# Altium integrated library Capacitor - Ceramic - Sumsung.IntLib: 1421 symbols (part 2 of 22)
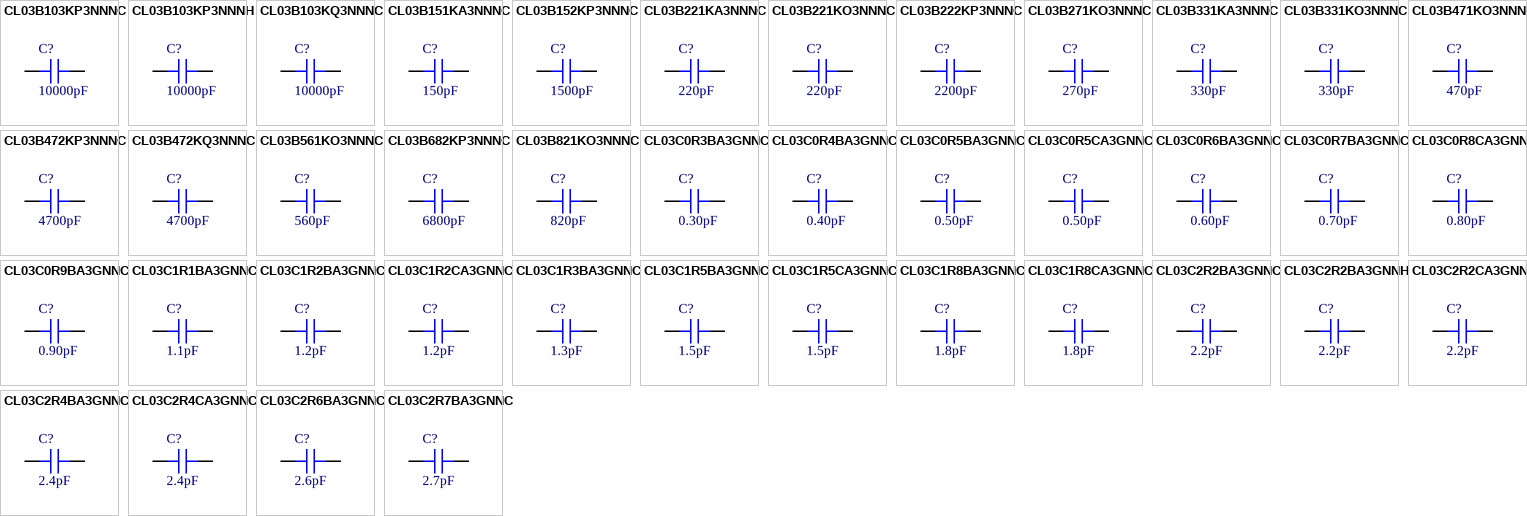
[diagram p36: symbols CL03B103KP3NNNC to CL03C2R7BA3GNNC]

## CL03C0R8CA3GNNC
designator C?, comment 0.80pF
CAP CER 0.8PF 25V NP0 0201; Part Number: CL03C0R8CA3GNNC; Manufacturer: Samsung Electro-Mechanics America, Inc.; TemperatureRange: -55C ~ 125C; TemperatureCoefficient: C0G, NP0; Tolerance: 0.25pF; Value: 0.80pF; PartId: 21066; Supplier 1: Digi-Key; Supplier Part Number 1: 1276-1381-2-ND; ComponentLink1Description: Datasheet; ComponentLink1URL: http://www.samsungsem.com/kr/support/product-search/mlcc/__icsFiles/afieldfile/2016/08/18/S_CL03C0R8CA3GNNC.pdf; ComponentLink2Description: Digi-Key Listing; ComponentLink2URL: https://www.digikey.com/product-detail/en/samsung-electro-mechanics-america-inc/CL03C0R8CA3GNNC/1276-1381-2-ND/3887039; Voltage: 25V; Price: 0.0033; Device Package: 0201 (0603 Metric)
footprint CAP 0201/0603
pins: 1, 2

## CL03C0R9BA3GNNC
designator C?, comment 0.90pF
CAP CER 0.9PF 25V NP0 0201; Part Number: CL03C0R9BA3GNNC; Manufacturer: Samsung Electro-Mechanics America, Inc.; TemperatureRange: -55C ~ 125C; TemperatureCoefficient: C0G, NP0; Tolerance: 0.1pF; Value: 0.90pF; PartId: 21050; Supplier 1: Digi-Key; Supplier Part Number 1: 1276-1382-2-ND; ComponentLink1Description: Datasheet; ComponentLink1URL: http://www.samsungsem.com/kr/support/product-search/mlcc/__icsFiles/afieldfile/2016/08/18/S_CL03C0R9BA3GNNC.pdf; ComponentLink2Description: Digi-Key Listing; ComponentLink2URL: https://www.digikey.com/product-detail/en/samsung-electro-mechanics-america-inc/CL03C0R9BA3GNNC/1276-1382-2-ND/3887040; Voltage: 25V; Price: 0.0063; Device Package: 0201 (0603 Metric)
footprint CAP 0201/0603
pins: 1, 2

## CL03C1R1BA3GNNC
designator C?, comment 1.1pF
CAP CER 1.1PF 25V C0G/NP0 0201; Part Number: CL03C1R1BA3GNNC; Manufacturer: Samsung Electro-Mechanics; TemperatureRange: -55C ~ 125C; TemperatureCoefficient: C0G, NP0; Tolerance: 0.1pF; Value: 1.1pF; PartId: 30087; Supplier 1: Digi-Key; Supplier Part Number 1: 1276-6502-2-ND; ComponentLink1Description: Datasheet; ComponentLink1URL: http://www.samsungsem.com/kr/support/product-search/mlcc/CL03C1R1BA3GNNC.jsp; ComponentLink2Description: Digi-Key Listing; ComponentLink2URL: https://www.digikey.com/product-detail/en/samsung-electro-mechanics/CL03C1R1BA3GNNC/1276-6502-2-ND/5960986; Voltage: 25V; Price: 0; Device Package: 0201 (0603 Metric)
footprint CAP 0201/0603
pins: 1, 2

## CL03C1R2BA3GNNC
designator C?, comment 1.2pF
CAP CER 1.2PF 25V NP0 0201; Part Number: CL03C1R2BA3GNNC; Manufacturer: Samsung Electro-Mechanics America, Inc.; TemperatureRange: -55C ~ 125C; TemperatureCoefficient: C0G, NP0; Tolerance: 0.1pF; Value: 1.2pF; PartId: 21060; Supplier 1: Digi-Key; Supplier Part Number 1: 1276-1392-2-ND; ComponentLink1Description: Datasheet; ComponentLink1URL: http://www.samsungsem.com/kr/support/product-search/mlcc/__icsFiles/afieldfile/2016/08/18/S_CL03C1R2BA3GNNC.pdf; ComponentLink2Description: Digi-Key Listing; ComponentLink2URL: https://www.digikey.com/product-detail/en/samsung-electro-mechanics-america-inc/CL03C1R2BA3GNNC/1276-1392-2-ND/3887050; Voltage: 25V; Price: 0.0063; Device Package: 0201 (0603 Metric)
footprint CAP 0201/0603
pins: 1, 2

## CL03C1R2CA3GNNC
designator C?, comment 1.2pF
CAP CER 1.2PF 25V NP0 0201; Part Number: CL03C1R2CA3GNNC; Manufacturer: Samsung Electro-Mechanics America, Inc.; TemperatureRange: -55C ~ 125C; TemperatureCoefficient: C0G, NP0; Tolerance: 0.25pF; Value: 1.2pF; PartId: 20733; Supplier 1: Digi-Key; Supplier Part Number 1: 1276-1393-2-ND; ComponentLink1Description: Datasheet; ComponentLink1URL: http://www.samsungsem.com/kr/support/product-search/mlcc/__icsFiles/afieldfile/2016/08/18/S_CL03C1R2CA3GNNC.pdf; ComponentLink2Description: Digi-Key Listing; ComponentLink2URL: https://www.digikey.com/product-detail/en/samsung-electro-mechanics-america-inc/CL03C1R2CA3GNNC/1276-1393-2-ND/3887051; Voltage: 25V; Price: 0.0039; Device Package: 0201 (0603 Metric)
footprint CAP 0201/0603
pins: 1, 2

## CL03C1R3BA3GNNC
designator C?, comment 1.3pF
CAP CER 1.3PF 25V NP0 0201; Part Number: CL03C1R3BA3GNNC; Manufacturer: Samsung Electro-Mechanics America, Inc.; TemperatureRange: -55C ~ 125C; TemperatureCoefficient: C0G, NP0; Tolerance: 0.1pF; Value: 1.3pF; PartId: 21073; Supplier 1: Digi-Key; Supplier Part Number 1: 1276-1394-2-ND; ComponentLink1Description: Datasheet; ComponentLink1URL: http://www.samsungsem.com/kr/support/product-search/mlcc/__icsFiles/afieldfile/2016/08/18/S_CL03C1R3BA3GNNC.pdf; ComponentLink2Description: Digi-Key Listing; ComponentLink2URL: https://www.digikey.com/product-detail/en/samsung-electro-mechanics-america-inc/CL03C1R3BA3GNNC/1276-1394-2-ND/3887052; Voltage: 25V; Price: 0.0063; Device Package: 0201 (0603 Metric)
footprint CAP 0201/0603
pins: 1, 2

## CL03C1R5BA3GNNC
designator C?, comment 1.5pF
CAP CER 1.5PF 25V NP0 0201; Part Number: CL03C1R5BA3GNNC; Manufacturer: Samsung Electro-Mechanics America, Inc.; TemperatureRange: -55C ~ 125C; TemperatureCoefficient: C0G, NP0; Tolerance: 0.1pF; Value: 1.5pF; PartId: 20789; Supplier 1: Digi-Key; Supplier Part Number 1: 1276-1395-2-ND; ComponentLink1Description: Datasheet; ComponentLink1URL: http://www.samsungsem.com/kr/support/product-search/mlcc/__icsFiles/afieldfile/2016/08/18/S_CL03C1R5BA3GNNC.pdf; ComponentLink2Description: Digi-Key Listing; ComponentLink2URL: https://www.digikey.com/product-detail/en/samsung-electro-mechanics-america-inc/CL03C1R5BA3GNNC/1276-1395-2-ND/3887053; Voltage: 25V; Price: 0.0063; Device Package: 0201 (0603 Metric)
footprint CAP 0201/0603
pins: 1, 2

## CL03C1R5CA3GNNC
designator C?, comment 1.5pF
CAP CER 1.5PF 25V NP0 0201; Part Number: CL03C1R5CA3GNNC; Manufacturer: Samsung Electro-Mechanics America, Inc.; TemperatureRange: -55C ~ 125C; TemperatureCoefficient: C0G, NP0; Tolerance: 0.25pF; Value: 1.5pF; PartId: 21086; Supplier 1: Digi-Key; Supplier Part Number 1: 1276-1396-2-ND; ComponentLink1Description: Datasheet; ComponentLink1URL: http://www.samsungsem.com/kr/support/product-search/mlcc/__icsFiles/afieldfile/2016/08/18/S_CL03C1R5CA3GNNC.pdf; ComponentLink2Description: Digi-Key Listing; ComponentLink2URL: https://www.digikey.com/product-detail/en/samsung-electro-mechanics-america-inc/CL03C1R5CA3GNNC/1276-1396-2-ND/3887054; Voltage: 25V; Price: 0.0039; Device Package: 0201 (0603 Metric)
footprint CAP 0201/0603
pins: 1, 2

## CL03C1R8BA3GNNC
designator C?, comment 1.8pF
CAP CER 1.8PF 25V NP0 0201; Part Number: CL03C1R8BA3GNNC; Manufacturer: Samsung Electro-Mechanics America, Inc.; TemperatureRange: -55C ~ 125C; TemperatureCoefficient: C0G, NP0; Tolerance: 0.1pF; Value: 1.8pF; PartId: 21044; Supplier 1: Digi-Key; Supplier Part Number 1: 1276-1399-2-ND; ComponentLink1Description: Datasheet; ComponentLink1URL: http://www.samsungsem.com/kr/support/product-search/mlcc/__icsFiles/afieldfile/2016/08/18/S_CL03C1R8BA3GNNC.pdf; ComponentLink2Description: Digi-Key Listing; ComponentLink2URL: https://www.digikey.com/product-detail/en/samsung-electro-mechanics-america-inc/CL03C1R8BA3GNNC/1276-1399-2-ND/3887057; Voltage: 25V; Price: 0.0063; Device Package: 0201 (0603 Metric)
footprint CAP 0201/0603
pins: 1, 2

## CL03C1R8CA3GNNC
designator C?, comment 1.8pF
CAP CER 1.8PF 25V NP0 0201; Part Number: CL03C1R8CA3GNNC; Manufacturer: Samsung Electro-Mechanics America, Inc.; TemperatureRange: -55C ~ 125C; TemperatureCoefficient: C0G, NP0; Tolerance: 0.25pF; Value: 1.8pF; PartId: 21051; Supplier 1: Digi-Key; Supplier Part Number 1: 1276-1400-2-ND; ComponentLink1Description: Datasheet; ComponentLink1URL: http://www.samsungsem.com/kr/support/product-search/mlcc/__icsFiles/afieldfile/2016/08/18/S_CL03C1R8CA3GNNC.pdf; ComponentLink2Description: Digi-Key Listing; ComponentLink2URL: https://www.digikey.com/product-detail/en/samsung-electro-mechanics-america-inc/CL03C1R8CA3GNNC/1276-1400-2-ND/3887058; Voltage: 25V; Price: 0.0039; Device Package: 0201 (0603 Metric)
footprint CAP 0201/0603
pins: 1, 2

## CL03C2R2BA3GNNC
designator C?, comment 2.2pF
CAP CER 2.2PF 25V NP0 0201; Part Number: CL03C2R2BA3GNNC; Manufacturer: Samsung Electro-Mechanics America, Inc.; TemperatureRange: -55C ~ 125C; TemperatureCoefficient: C0G, NP0; Tolerance: 0.1pF; Value: 2.2pF; PartId: 21083; Supplier 1: Digi-Key; Supplier Part Number 1: 1276-1403-2-ND; ComponentLink1Description: Datasheet; ComponentLink1URL: http://www.samsungsem.com/kr/support/product-search/mlcc/__icsFiles/afieldfile/2016/08/18/S_CL03C2R2BA3GNNC.pdf; ComponentLink2Description: Digi-Key Listing; ComponentLink2URL: https://www.digikey.com/product-detail/en/samsung-electro-mechanics-america-inc/CL03C2R2BA3GNNC/1276-1403-2-ND/3887061; Voltage: 25V; Price: 0.0063; Device Package: 0201 (0603 Metric)
footprint CAP 0201/0603
pins: 1, 2

## CL03C2R2BA3GNNH
designator C?, comment 2.2pF
CAP CER 2.2PF 25V NP0 0201; Part Number: CL03C2R2BA3GNNH; Manufacturer: Samsung Electro-Mechanics America, Inc.; TemperatureRange: -55C ~ 125C; TemperatureCoefficient: C0G, NP0; Tolerance: 0.1pF; Value: 2.2pF; PartId: 20988; Supplier 1: Digi-Key; Supplier Part Number 1: 1276-6449-2-ND; ComponentLink1Description: Datasheet; ComponentLink1URL: http://www.samsungsem.com/kr/support/product-search/mlcc/__icsFiles/afieldfile/2016/08/18/S_CL03C2R2BA3GNNH.pdf; ComponentLink2Description: Digi-Key Listing; ComponentLink2URL: https://www.digikey.com/product-detail/en/samsung-electro-mechanics-america-inc/CL03C2R2BA3GNNH/1276-6449-2-ND/3894150; Voltage: 25V; Price: 0.0034; Device Package: 0201 (0603 Metric)
footprint CAP 0201/0603
pins: 1, 2

## CL03C2R2CA3GNNC
designator C?, comment 2.2pF
CAP CER 2.2PF 25V NP0 0201; Part Number: CL03C2R2CA3GNNC; Manufacturer: Samsung Electro-Mechanics America, Inc.; TemperatureRange: -55C ~ 125C; TemperatureCoefficient: C0G, NP0; Tolerance: 0.25pF; Value: 2.2pF; PartId: 20734; Supplier 1: Digi-Key; Supplier Part Number 1: 1276-1404-2-ND; ComponentLink1Description: Datasheet; ComponentLink1URL: http://www.samsungsem.com/kr/support/product-search/mlcc/__icsFiles/afieldfile/2016/08/18/S_CL03C2R2CA3GNNC.pdf; ComponentLink2Description: Digi-Key Listing; ComponentLink2URL: https://www.digikey.com/product-detail/en/samsung-electro-mechanics-america-inc/CL03C2R2CA3GNNC/1276-1404-2-ND/3887062; Voltage: 25V; Price: 0.0039; Device Package: 0201 (0603 Metric)
footprint CAP 0201/0603
pins: 1, 2

## CL03C2R4BA3GNNC
designator C?, comment 2.4pF
CAP CER 2.4PF 25V NP0 0201; Part Number: CL03C2R4BA3GNNC; Manufacturer: Samsung Electro-Mechanics America, Inc.; TemperatureRange: -55C ~ 125C; TemperatureCoefficient: C0G, NP0; Tolerance: 0.1pF; Value: 2.4pF; PartId: 21077; Supplier 1: Digi-Key; Supplier Part Number 1: 1276-1405-2-ND; ComponentLink1Description: Datasheet; ComponentLink1URL: http://www.samsungsem.com/kr/support/product-search/mlcc/__icsFiles/afieldfile/2016/08/18/S_CL03C2R4BA3GNNC.pdf; ComponentLink2Description: Digi-Key Listing; ComponentLink2URL: https://www.digikey.com/product-detail/en/samsung-electro-mechanics-america-inc/CL03C2R4BA3GNNC/1276-1405-2-ND/3887063; Voltage: 25V; Price: 0.0063; Device Package: 0201 (0603 Metric)
footprint CAP 0201/0603
pins: 1, 2

## CL03C2R4CA3GNNC
designator C?, comment 2.4pF
CAP CER 2.4PF 25V NP0 0201; Part Number: CL03C2R4CA3GNNC; Manufacturer: Samsung Electro-Mechanics America, Inc.; TemperatureRange: -55C ~ 125C; TemperatureCoefficient: C0G, NP0; Tolerance: 0.25pF; Value: 2.4pF; PartId: 21055; Supplier 1: Digi-Key; Supplier Part Number 1: 1276-1406-2-ND; ComponentLink1Description: Datasheet; ComponentLink1URL: http://www.samsungsem.com/kr/support/product-search/mlcc/__icsFiles/afieldfile/2016/08/18/S_CL03C2R4CA3GNNC.pdf; ComponentLink2Description: Digi-Key Listing; ComponentLink2URL: https://www.digikey.com/product-detail/en/samsung-electro-mechanics-america-inc/CL03C2R4CA3GNNC/1276-1406-2-ND/3887064; Voltage: 25V; Price: 0.0033; Device Package: 0201 (0603 Metric)
footprint CAP 0201/0603
pins: 1, 2

## CL03C2R6BA3GNNC
designator C?, comment 2.6pF
CAP CER 2.6PF 25V NP0 0201; Part Number: CL03C2R6BA3GNNC; Manufacturer: Samsung Electro-Mechanics America, Inc.; TemperatureRange: -55C ~ 125C; TemperatureCoefficient: C0G, NP0; Tolerance: 0.1pF; Value: 2.6pF; PartId: 21080; Supplier 1: Digi-Key; Supplier Part Number 1: 1276-6623-2-ND; ComponentLink1Description: Datasheet; ComponentLink1URL: http://www.samsungsem.com/kr/support/product-search/mlcc/__icsFiles/afieldfile/2016/08/18/S_CL03C2R6BA3GNNC.pdf; ComponentLink2Description: Digi-Key Listing; ComponentLink2URL: https://www.digikey.com/product-detail/en/samsung-electro-mechanics-america-inc/CL03C2R6BA3GNNC/1276-6623-2-ND/5961107; Voltage: 25V; Price: 0.0039; Device Package: 0201 (0603 Metric)
footprint CAP 0201/0603
pins: 1, 2

## CL03C2R7BA3GNNC
designator C?, comment 2.7pF
CAP CER 2.7PF 25V NP0 0201; Part Number: CL03C2R7BA3GNNC; Manufacturer: Samsung Electro-Mechanics America, Inc.; TemperatureRange: -55C ~ 125C; TemperatureCoefficient: C0G, NP0; Tolerance: 0.1pF; Value: 2.7pF; PartId: 21028; Supplier 1: Digi-Key; Supplier Part Number 1: 1276-1407-2-ND; ComponentLink1Description: Datasheet; ComponentLink1URL: http://www.samsungsem.com/kr/support/product-search/mlcc/__icsFiles/afieldfile/2016/08/18/S_CL03C2R7BA3GNNC.pdf; ComponentLink2Description: Digi-Key Listing; ComponentLink2URL: https://www.digikey.com/product-detail/en/samsung-electro-mechanics-america-inc/CL03C2R7BA3GNNC/1276-1407-2-ND/3887065; Voltage: 25V; Price: 0.0063; Device Package: 0201 (0603 Metric)
footprint CAP 0201/0603
pins: 1, 2

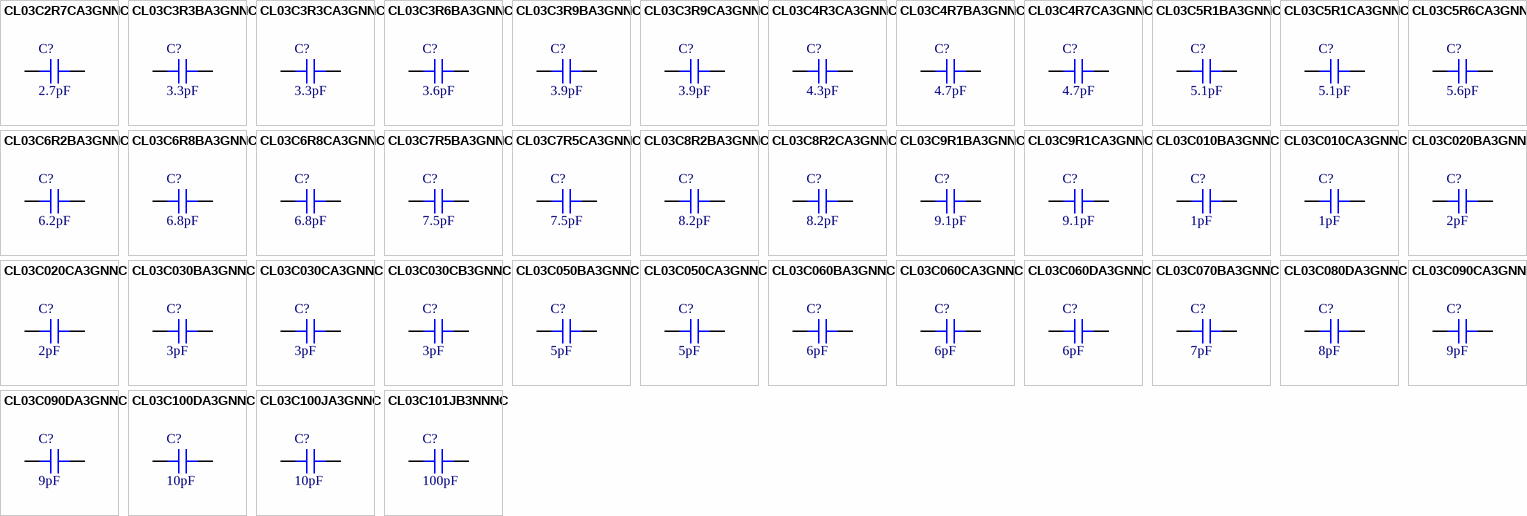
[diagram p2: symbols CL03C2R7CA3GNNC to CL03C101JB3NNNC]

## CL03C2R7CA3GNNC
designator C?, comment 2.7pF
CAP CER 2.7PF 25V NP0 0201; Part Number: CL03C2R7CA3GNNC; Manufacturer: Samsung Electro-Mechanics America, Inc.; TemperatureRange: -55C ~ 125C; TemperatureCoefficient: C0G, NP0; Tolerance: 0.25pF; Value: 2.7pF; PartId: 20730; Supplier 1: Digi-Key; Supplier Part Number 1: 1276-1408-2-ND; ComponentLink1Description: Datasheet; ComponentLink1URL: http://www.samsungsem.com/kr/support/product-search/mlcc/__icsFiles/afieldfile/2016/08/18/S_CL03C2R7CA3GNNC.pdf; ComponentLink2Description: Digi-Key Listing; ComponentLink2URL: https://www.digikey.com/product-detail/en/samsung-electro-mechanics-america-inc/CL03C2R7CA3GNNC/1276-1408-2-ND/3887066; Voltage: 25V; Price: 0.0039; Device Package: 0201 (0603 Metric)
footprint CAP 0201/0603
pins: 1, 2

## CL03C3R3BA3GNNC
designator C?, comment 3.3pF
CAP CER 3.3PF 25V C0G/NP0 0201; Part Number: CL03C3R3BA3GNNC; Manufacturer: Samsung Electro-Mechanics; TemperatureRange: -55C ~ 125C; TemperatureCoefficient: C0G, NP0; Tolerance: 0.1pF; Value: 3.3pF; PartId: 30158; Supplier 1: Digi-Key; Supplier Part Number 1: 1276-1411-2-ND; ComponentLink1Description: Datasheet; ComponentLink1URL: http://www.samsungsem.com/kr/support/product-search/mlcc/CL03C3R3BA3GNNC.jsp; ComponentLink2Description: Digi-Key Listing; ComponentLink2URL: https://www.digikey.com/product-detail/en/samsung-electro-mechanics/CL03C3R3BA3GNNC/1276-1411-2-ND/3887069; Voltage: 25V; Price: 0; Device Package: 0201 (0603 Metric)
footprint CAP 0201/0603
pins: 1, 2

## CL03C3R3CA3GNNC
designator C?, comment 3.3pF
CAP CER 3.3PF 25V NP0 0201; Part Number: CL03C3R3CA3GNNC; Manufacturer: Samsung Electro-Mechanics America, Inc.; TemperatureRange: -55C ~ 125C; TemperatureCoefficient: C0G, NP0; Tolerance: 0.25pF; Value: 3.3pF; PartId: 21084; Supplier 1: Digi-Key; Supplier Part Number 1: 1276-1412-2-ND; ComponentLink1Description: Datasheet; ComponentLink1URL: http://www.samsungsem.com/kr/support/product-search/mlcc/__icsFiles/afieldfile/2016/08/18/S_CL03C3R3CA3GNNC.pdf; ComponentLink2Description: Digi-Key Listing; ComponentLink2URL: https://www.digikey.com/product-detail/en/samsung-electro-mechanics-america-inc/CL03C3R3CA3GNNC/1276-1412-2-ND/3887070; Voltage: 25V; Price: 0.0039; Device Package: 0201 (0603 Metric)
footprint CAP 0201/0603
pins: 1, 2

## CL03C3R6BA3GNNC
designator C?, comment 3.6pF
CAP CER 3.6PF 25V NP0 0201; Part Number: CL03C3R6BA3GNNC; Manufacturer: Samsung Electro-Mechanics America, Inc.; TemperatureRange: -55C ~ 125C; TemperatureCoefficient: C0G, NP0; Tolerance: 0.1pF; Value: 3.6pF; PartId: 21065; Supplier 1: Digi-Key; Supplier Part Number 1: 1276-1413-2-ND; ComponentLink1Description: Datasheet; ComponentLink1URL: http://www.samsungsem.com/kr/support/product-search/mlcc/__icsFiles/afieldfile/2016/08/18/S_CL03C3R6BA3GNNC.pdf; ComponentLink2Description: Digi-Key Listing; ComponentLink2URL: https://www.digikey.com/product-detail/en/samsung-electro-mechanics-america-inc/CL03C3R6BA3GNNC/1276-1413-2-ND/3887071; Voltage: 25V; Price: 0.0063; Device Package: 0201 (0603 Metric)
footprint CAP 0201/0603
pins: 1, 2

## CL03C3R9BA3GNNC
designator C?, comment 3.9pF
CAP CER 3.9PF 25V NP0 0201; Part Number: CL03C3R9BA3GNNC; Manufacturer: Samsung Electro-Mechanics America, Inc.; TemperatureRange: -55C ~ 125C; TemperatureCoefficient: C0G, NP0; Tolerance: 0.1pF; Value: 3.9pF; PartId: 20790; Supplier 1: Digi-Key; Supplier Part Number 1: 1276-1416-2-ND; ComponentLink1Description: Datasheet; ComponentLink1URL: http://www.samsungsem.com/kr/support/product-search/mlcc/__icsFiles/afieldfile/2016/08/18/S_CL03C3R9BA3GNNC.pdf; ComponentLink2Description: Digi-Key Listing; ComponentLink2URL: https://www.digikey.com/product-detail/en/samsung-electro-mechanics-america-inc/CL03C3R9BA3GNNC/1276-1416-2-ND/3887074; Voltage: 25V; Price: 0.0063; Device Package: 0201 (0603 Metric)
footprint CAP 0201/0603
pins: 1, 2

## CL03C3R9CA3GNNC
designator C?, comment 3.9pF
CAP CER 3.9PF 25V NP0 0201; Part Number: CL03C3R9CA3GNNC; Manufacturer: Samsung Electro-Mechanics America, Inc.; TemperatureRange: -55C ~ 125C; TemperatureCoefficient: C0G, NP0; Tolerance: 0.25pF; Value: 3.9pF; PartId: 20865; Supplier 1: Digi-Key; Supplier Part Number 1: 1276-1417-2-ND; ComponentLink1Description: Datasheet; ComponentLink1URL: http://www.samsungsem.com/kr/support/product-search/mlcc/__icsFiles/afieldfile/2016/08/18/S_CL03C3R9CA3GNNC.pdf; ComponentLink2Description: Digi-Key Listing; ComponentLink2URL: https://www.digikey.com/product-detail/en/samsung-electro-mechanics-america-inc/CL03C3R9CA3GNNC/1276-1417-2-ND/3887075; Voltage: 25V; Price: 0.0039; Device Package: 0201 (0603 Metric)
footprint CAP 0201/0603
pins: 1, 2

## CL03C4R3CA3GNNC
designator C?, comment 4.3pF
CAP CER 4.3PF 25V NP0 0201; Part Number: CL03C4R3CA3GNNC; Manufacturer: Samsung Electro-Mechanics America, Inc.; TemperatureRange: -55C ~ 125C; TemperatureCoefficient: C0G, NP0; Tolerance: 0.25pF; Value: 4.3pF; PartId: 21047; Supplier 1: Digi-Key; Supplier Part Number 1: 1276-1420-2-ND; ComponentLink1Description: Datasheet; ComponentLink1URL: http://www.samsungsem.com/kr/support/product-search/mlcc/__icsFiles/afieldfile/2016/08/18/S_CL03C4R3CA3GNNC.pdf; ComponentLink2Description: Digi-Key Listing; ComponentLink2URL: https://www.digikey.com/product-detail/en/samsung-electro-mechanics-america-inc/CL03C4R3CA3GNNC/1276-1420-2-ND/3887078; Voltage: 25V; Price: 0.0033; Device Package: 0201 (0603 Metric)
footprint CAP 0201/0603
pins: 1, 2

## CL03C4R7BA3GNNC
designator C?, comment 4.7pF
CAP CER 4.7PF 25V NP0 0201; Part Number: CL03C4R7BA3GNNC; Manufacturer: Samsung Electro-Mechanics America, Inc.; TemperatureRange: -55C ~ 125C; TemperatureCoefficient: C0G, NP0; Tolerance: 0.1pF; Value: 4.7pF; PartId: 21029; Supplier 1: Digi-Key; Supplier Part Number 1: 1276-1421-2-ND; ComponentLink1Description: Datasheet; ComponentLink1URL: http://www.samsungsem.com/kr/support/product-search/mlcc/__icsFiles/afieldfile/2016/08/18/S_CL03C4R7BA3GNNC.pdf; ComponentLink2Description: Digi-Key Listing; ComponentLink2URL: https://www.digikey.com/product-detail/en/samsung-electro-mechanics-america-inc/CL03C4R7BA3GNNC/1276-1421-2-ND/3887079; Voltage: 25V; Price: 0.0063; Device Package: 0201 (0603 Metric)
footprint CAP 0201/0603
pins: 1, 2

## CL03C4R7CA3GNNC
designator C?, comment 4.7pF
CAP CER 4.7PF 25V NP0 0201; Part Number: CL03C4R7CA3GNNC; Manufacturer: Samsung Electro-Mechanics America, Inc.; TemperatureRange: -55C ~ 125C; TemperatureCoefficient: C0G, NP0; Tolerance: 0.25pF; Value: 4.7pF; PartId: 21032; Supplier 1: Digi-Key; Supplier Part Number 1: 1276-1422-2-ND; ComponentLink1Description: Datasheet; ComponentLink1URL: http://www.samsungsem.com/kr/support/product-search/mlcc/__icsFiles/afieldfile/2016/08/18/S_CL03C4R7CA3GNNC.pdf; ComponentLink2Description: Digi-Key Listing; ComponentLink2URL: https://www.digikey.com/product-detail/en/samsung-electro-mechanics-america-inc/CL03C4R7CA3GNNC/1276-1422-2-ND/3887080; Voltage: 25V; Price: 0.0039; Device Package: 0201 (0603 Metric)
footprint CAP 0201/0603
pins: 1, 2

## CL03C5R1BA3GNNC
designator C?, comment 5.1pF
CAP CER 5.1PF 25V NP0 0201; Part Number: CL03C5R1BA3GNNC; Manufacturer: Samsung Electro-Mechanics America, Inc.; TemperatureRange: -55C ~ 125C; TemperatureCoefficient: C0G, NP0; Tolerance: 0.1pF; Value: 5.1pF; PartId: 21054; Supplier 1: Digi-Key; Supplier Part Number 1: 1276-1424-2-ND; ComponentLink1Description: Datasheet; ComponentLink1URL: http://www.samsungsem.com/kr/support/product-search/mlcc/__icsFiles/afieldfile/2016/08/18/S_CL03C5R1BA3GNNC.pdf; ComponentLink2Description: Digi-Key Listing; ComponentLink2URL: https://www.digikey.com/product-detail/en/samsung-electro-mechanics-america-inc/CL03C5R1BA3GNNC/1276-1424-2-ND/3887082; Voltage: 25V; Price: 0.0035; Device Package: 0201 (0603 Metric)
footprint CAP 0201/0603
pins: 1, 2

## CL03C5R1CA3GNNC
designator C?, comment 5.1pF
CAP CER 5.1PF 25V NP0 0201; Part Number: CL03C5R1CA3GNNC; Manufacturer: Samsung Electro-Mechanics America, Inc.; TemperatureRange: -55C ~ 125C; TemperatureCoefficient: C0G, NP0; Tolerance: 0.25pF; Value: 5.1pF; PartId: 21031; Supplier 1: Digi-Key; Supplier Part Number 1: 1276-1425-2-ND; ComponentLink1Description: Datasheet; ComponentLink1URL: http://www.samsungsem.com/kr/support/product-search/mlcc/__icsFiles/afieldfile/2016/08/18/S_CL03C5R1CA3GNNC.pdf; ComponentLink2Description: Digi-Key Listing; ComponentLink2URL: https://www.digikey.com/product-detail/en/samsung-electro-mechanics-america-inc/CL03C5R1CA3GNNC/1276-1425-2-ND/3887083; Voltage: 25V; Price: 0.0033; Device Package: 0201 (0603 Metric)
footprint CAP 0201/0603
pins: 1, 2

## CL03C5R6CA3GNNC
designator C?, comment 5.6pF
CAP CER 5.6PF 25V NP0 0201; Part Number: CL03C5R6CA3GNNC; Manufacturer: Samsung Electro-Mechanics America, Inc.; TemperatureRange: -55C ~ 125C; TemperatureCoefficient: C0G, NP0; Tolerance: 0.25pF; Value: 5.6pF; PartId: 20866; Supplier 1: Digi-Key; Supplier Part Number 1: 1276-1427-2-ND; ComponentLink1Description: Datasheet; ComponentLink1URL: //media.digikey.com/pdf/Data%20Sheets/Samsung%20PDFs/CL03C5R6CA3GNNC.pdf; ComponentLink2Description: Digi-Key Listing; ComponentLink2URL: https://www.digikey.com/product-detail/en/samsung-electro-mechanics-america-inc/CL03C5R6CA3GNNC/1276-1427-2-ND/3887085; Voltage: 25V; Price: 0.0039; Device Package: 0201 (0603 Metric)
footprint CAP 0201/0603
pins: 1, 2

## CL03C6R2BA3GNNC
designator C?, comment 6.2pF
CAP CER 6.2PF 25V NP0 0201; Part Number: CL03C6R2BA3GNNC; Manufacturer: Samsung Electro-Mechanics America, Inc.; TemperatureRange: -55C ~ 125C; TemperatureCoefficient: C0G, NP0; Tolerance: 0.1pF; Value: 6.2pF; PartId: 21075; Supplier 1: Digi-Key; Supplier Part Number 1: 1276-1429-2-ND; ComponentLink1Description: Datasheet; ComponentLink1URL: http://www.samsungsem.com/kr/support/product-search/mlcc/__icsFiles/afieldfile/2016/08/18/S_CL03C6R2BA3GNNC.pdf; ComponentLink2Description: Digi-Key Listing; ComponentLink2URL: https://www.digikey.com/product-detail/en/samsung-electro-mechanics-america-inc/CL03C6R2BA3GNNC/1276-1429-2-ND/3887087; Voltage: 25V; Price: 0.0063; Device Package: 0201 (0603 Metric)
footprint CAP 0201/0603
pins: 1, 2

## CL03C6R8BA3GNNC
designator C?, comment 6.8pF
CAP CER 6.8PF 25V NP0 0201; Part Number: CL03C6R8BA3GNNC; Manufacturer: Samsung Electro-Mechanics America, Inc.; TemperatureRange: -55C ~ 125C; TemperatureCoefficient: C0G, NP0; Tolerance: 0.1pF; Value: 6.8pF; PartId: 20809; Supplier 1: Digi-Key; Supplier Part Number 1: 1276-1430-2-ND; ComponentLink1Description: Datasheet; ComponentLink1URL: //media.digikey.com/pdf/Data%20Sheets/Samsung%20PDFs/CL03C6R8BA3GNNC.pdf; ComponentLink2Description: Digi-Key Listing; ComponentLink2URL: https://www.digikey.com/product-detail/en/samsung-electro-mechanics-america-inc/CL03C6R8BA3GNNC/1276-1430-2-ND/3887088; Voltage: 25V; Price: 0.0107; Device Package: 0201 (0603 Metric)
footprint CAP 0201/0603
pins: 1, 2

## CL03C6R8CA3GNNC
designator C?, comment 6.8pF
CAP CER 6.8PF 25V NP0 0201; Part Number: CL03C6R8CA3GNNC; Manufacturer: Samsung Electro-Mechanics America, Inc.; TemperatureRange: -55C ~ 125C; TemperatureCoefficient: C0G, NP0; Tolerance: 0.25pF; Value: 6.8pF; PartId: 20728; Supplier 1: Digi-Key; Supplier Part Number 1: 1276-1431-2-ND; ComponentLink1Description: Datasheet; ComponentLink1URL: http://www.samsungsem.com/kr/support/product-search/mlcc/__icsFiles/afieldfile/2016/08/18/S_CL03C6R8CA3GNNC.pdf; ComponentLink2Description: Digi-Key Listing; ComponentLink2URL: https://www.digikey.com/product-detail/en/samsung-electro-mechanics-america-inc/CL03C6R8CA3GNNC/1276-1431-2-ND/3887089; Voltage: 25V; Price: 0.0039; Device Package: 0201 (0603 Metric)
footprint CAP 0201/0603
pins: 1, 2

## CL03C7R5BA3GNNC
designator C?, comment 7.5pF
CAP CER 7.5PF 25V NP0 0201; Part Number: CL03C7R5BA3GNNC; Manufacturer: Samsung Electro-Mechanics America, Inc.; TemperatureRange: -55C ~ 125C; TemperatureCoefficient: C0G, NP0; Tolerance: 0.1pF; Value: 7.5pF; PartId: 21070; Supplier 1: Digi-Key; Supplier Part Number 1: 1276-1432-2-ND; ComponentLink1Description: Datasheet; ComponentLink1URL: http://www.samsungsem.com/kr/support/product-search/mlcc/__icsFiles/afieldfile/2016/08/18/S_CL03C7R5BA3GNNC.pdf; ComponentLink2Description: Digi-Key Listing; ComponentLink2URL: https://www.digikey.com/product-detail/en/samsung-electro-mechanics-america-inc/CL03C7R5BA3GNNC/1276-1432-2-ND/3887090; Voltage: 25V; Price: 0.0063; Device Package: 0201 (0603 Metric)
footprint CAP 0201/0603
pins: 1, 2

## CL03C7R5CA3GNNC
designator C?, comment 7.5pF
CAP CER 7.5PF 25V NP0 0201; Part Number: CL03C7R5CA3GNNC; Manufacturer: Samsung Electro-Mechanics America, Inc.; TemperatureRange: -55C ~ 125C; TemperatureCoefficient: C0G, NP0; Tolerance: 0.25pF; Value: 7.5pF; PartId: 21056; Supplier 1: Digi-Key; Supplier Part Number 1: 1276-1433-2-ND; ComponentLink1Description: Datasheet; ComponentLink1URL: http://www.samsungsem.com/kr/support/product-search/mlcc/__icsFiles/afieldfile/2016/08/18/S_CL03C7R5CA3GNNC.pdf; ComponentLink2Description: Digi-Key Listing; ComponentLink2URL: https://www.digikey.com/product-detail/en/samsung-electro-mechanics-america-inc/CL03C7R5CA3GNNC/1276-1433-2-ND/3887091; Voltage: 25V; Price: 0.0039; Device Package: 0201 (0603 Metric)
footprint CAP 0201/0603
pins: 1, 2

## CL03C8R2BA3GNNC
designator C?, comment 8.2pF
CAP CER 8.2PF 25V NP0 0201; Part Number: CL03C8R2BA3GNNC; Manufacturer: Samsung Electro-Mechanics America, Inc.; TemperatureRange: -55C ~ 125C; TemperatureCoefficient: C0G, NP0; Tolerance: 0.1pF; Value: 8.2pF; PartId: 21079; Supplier 1: Digi-Key; Supplier Part Number 1: 1276-1435-2-ND; ComponentLink1Description: Datasheet; ComponentLink1URL: //media.digikey.com/pdf/Data%20Sheets/Samsung%20PDFs/CL03C8R2BA3GNNC.pdf; ComponentLink2Description: Digi-Key Listing; ComponentLink2URL: https://www.digikey.com/product-detail/en/samsung-electro-mechanics-america-inc/CL03C8R2BA3GNNC/1276-1435-2-ND/3887093; Voltage: 25V; Price: 0.0063; Device Package: 0201 (0603 Metric)
footprint CAP 0201/0603
pins: 1, 2

## CL03C8R2CA3GNNC
designator C?, comment 8.2pF
CAP CER 8.2PF 25V NP0 0201; Part Number: CL03C8R2CA3GNNC; Manufacturer: Samsung Electro-Mechanics America, Inc.; TemperatureRange: -55C ~ 125C; TemperatureCoefficient: C0G, NP0; Tolerance: 0.25pF; Value: 8.2pF; PartId: 21072; Supplier 1: Digi-Key; Supplier Part Number 1: 1276-1436-2-ND; ComponentLink1Description: Datasheet; ComponentLink1URL: http://www.samsungsem.com/kr/support/product-search/mlcc/__icsFiles/afieldfile/2016/08/18/S_CL03C8R2CA3GNNC.pdf; ComponentLink2Description: Digi-Key Listing; ComponentLink2URL: https://www.digikey.com/product-detail/en/samsung-electro-mechanics-america-inc/CL03C8R2CA3GNNC/1276-1436-2-ND/3887094; Voltage: 25V; Price: 0.0039; Device Package: 0201 (0603 Metric)
footprint CAP 0201/0603
pins: 1, 2

## CL03C9R1BA3GNNC
designator C?, comment 9.1pF
CAP CER 9.1PF 25V NP0 0201; Part Number: CL03C9R1BA3GNNC; Manufacturer: Samsung Electro-Mechanics America, Inc.; TemperatureRange: -55C ~ 125C; TemperatureCoefficient: C0G, NP0; Tolerance: 0.1pF; Value: 9.1pF; PartId: 21067; Supplier 1: Digi-Key; Supplier Part Number 1: 1276-1437-2-ND; ComponentLink1Description: Datasheet; ComponentLink1URL: //media.digikey.com/pdf/Data%20Sheets/Samsung%20PDFs/CL03C9R1BA3GNNC_Spec.pdf; ComponentLink2Description: Digi-Key Listing; ComponentLink2URL: https://www.digikey.com/product-detail/en/samsung-electro-mechanics-america-inc/CL03C9R1BA3GNNC/1276-1437-2-ND/3887095; Voltage: 25V; Price: 0.0063; Device Package: 0201 (0603 Metric)
footprint CAP 0201/0603
pins: 1, 2

## CL03C9R1CA3GNNC
designator C?, comment 9.1pF
CAP CER 9.1PF 25V NP0 0201; Part Number: CL03C9R1CA3GNNC; Manufacturer: Samsung Electro-Mechanics America, Inc.; TemperatureRange: -55C ~ 125C; TemperatureCoefficient: C0G, NP0; Tolerance: 0.25pF; Value: 9.1pF; PartId: 21048; Supplier 1: Digi-Key; Supplier Part Number 1: 1276-1438-2-ND; ComponentLink1Description: Datasheet; ComponentLink1URL: http://www.samsungsem.com/kr/support/product-search/mlcc/__icsFiles/afieldfile/2016/08/18/S_CL03C9R1CA3GNNC.pdf; ComponentLink2Description: Digi-Key Listing; ComponentLink2URL: https://www.digikey.com/product-detail/en/samsung-electro-mechanics-america-inc/CL03C9R1CA3GNNC/1276-1438-2-ND/3887096; Voltage: 25V; Price: 0.0033; Device Package: 0201 (0603 Metric)
footprint CAP 0201/0603
pins: 1, 2

## CL03C010BA3GNNC
designator C?, comment 1pF
CAP CER 1PF 25V C0G/NP0 0201; Part Number: CL03C010BA3GNNC; Manufacturer: Samsung Electro-Mechanics; TemperatureRange: -55C ~ 125C; TemperatureCoefficient: C0G, NP0; Tolerance: 0.1pF; Value: 1pF; PartId: 30157; Supplier 1: Digi-Key; Supplier Part Number 1: 1276-1361-2-ND; ComponentLink1Description: Datasheet; ComponentLink1URL: http://www.samsungsem.com/kr/support/product-search/mlcc/CL03C010BA3GNNC.jsp; ComponentLink2Description: Digi-Key Listing; ComponentLink2URL: https://www.digikey.com/product-detail/en/samsung-electro-mechanics/CL03C010BA3GNNC/1276-1361-2-ND/3887019; Voltage: 25V; Price: 0; Device Package: 0201 (0603 Metric)
footprint CAP 0201/0603
pins: 1, 2

## CL03C010CA3GNNC
designator C?, comment 1pF
CAP CER 1PF 25V NP0 0201; Part Number: CL03C010CA3GNNC; Manufacturer: Samsung Electro-Mechanics America, Inc.; TemperatureRange: -55C ~ 125C; TemperatureCoefficient: C0G, NP0; Tolerance: 0.25pF; Value: 1pF; PartId: 21030; Supplier 1: Digi-Key; Supplier Part Number 1: 1276-1362-2-ND; ComponentLink1Description: Datasheet; ComponentLink1URL: http://www.samsungsem.com/kr/support/product-search/mlcc/__icsFiles/afieldfile/2016/08/18/S_CL03C010CA3GNNC.pdf; ComponentLink2Description: Digi-Key Listing; ComponentLink2URL: https://www.digikey.com/product-detail/en/samsung-electro-mechanics-america-inc/CL03C010CA3GNNC/1276-1362-2-ND/3887020; Voltage: 25V; Price: 0.0039; Device Package: 0201 (0603 Metric)
footprint CAP 0201/0603
pins: 1, 2

## CL03C020BA3GNNC
designator C?, comment 2pF
CAP CER 2PF 25V NP0 0201; Part Number: CL03C020BA3GNNC; Manufacturer: Samsung Electro-Mechanics America, Inc.; TemperatureRange: -55C ~ 125C; TemperatureCoefficient: C0G, NP0; Tolerance: 0.1pF; Value: 2pF; PartId: 20785; Supplier 1: Digi-Key; Supplier Part Number 1: 1276-1363-2-ND; ComponentLink1Description: Datasheet; ComponentLink1URL: http://www.samsungsem.com/kr/support/product-search/mlcc/__icsFiles/afieldfile/2016/08/18/S_CL03C020BA3GNNC.pdf; ComponentLink2Description: Digi-Key Listing; ComponentLink2URL: https://www.digikey.com/product-detail/en/samsung-electro-mechanics-america-inc/CL03C020BA3GNNC/1276-1363-2-ND/3887021; Voltage: 25V; Price: 0.0063; Device Package: 0201 (0603 Metric)
footprint CAP 0201/0603
pins: 1, 2

## CL03C020CA3GNNC
designator C?, comment 2pF
CAP CER 2PF 25V NP0 0201; Part Number: CL03C020CA3GNNC; Manufacturer: Samsung Electro-Mechanics America, Inc.; TemperatureRange: -55C ~ 125C; TemperatureCoefficient: C0G, NP0; Tolerance: 0.25pF; Value: 2pF; PartId: 21046; Supplier 1: Digi-Key; Supplier Part Number 1: 1276-1364-2-ND; ComponentLink1Description: Datasheet; ComponentLink1URL: http://www.samsungsem.com/kr/support/product-search/mlcc/__icsFiles/afieldfile/2016/08/18/S_CL03C020CA3GNNC.pdf; ComponentLink2Description: Digi-Key Listing; ComponentLink2URL: https://www.digikey.com/product-detail/en/samsung-electro-mechanics-america-inc/CL03C020CA3GNNC/1276-1364-2-ND/3887022; Voltage: 25V; Price: 0.0039; Device Package: 0201 (0603 Metric)
footprint CAP 0201/0603
pins: 1, 2

## CL03C030BA3GNNC
designator C?, comment 3pF
CAP CER 3PF 25V NP0 0201; Part Number: CL03C030BA3GNNC; Manufacturer: Samsung Electro-Mechanics America, Inc.; TemperatureRange: -55C ~ 125C; TemperatureCoefficient: C0G, NP0; Tolerance: 0.1pF; Value: 3pF; PartId: 21058; Supplier 1: Digi-Key; Supplier Part Number 1: 1276-1365-2-ND; ComponentLink1Description: Datasheet; ComponentLink1URL: http://www.samsungsem.com/kr/support/product-search/mlcc/__icsFiles/afieldfile/2016/08/18/S_CL03C030BA3GNNC.pdf; ComponentLink2Description: Digi-Key Listing; ComponentLink2URL: https://www.digikey.com/product-detail/en/samsung-electro-mechanics-america-inc/CL03C030BA3GNNC/1276-1365-2-ND/3887023; Voltage: 25V; Price: 0.0063; Device Package: 0201 (0603 Metric)
footprint CAP 0201/0603
pins: 1, 2

## CL03C030CA3GNNC
designator C?, comment 3pF
CAP CER 3PF 25V NP0 0201; Part Number: CL03C030CA3GNNC; Manufacturer: Samsung Electro-Mechanics America, Inc.; TemperatureRange: -55C ~ 125C; TemperatureCoefficient: C0G, NP0; Tolerance: 0.25pF; Value: 3pF; PartId: 20732; Supplier 1: Digi-Key; Supplier Part Number 1: 1276-1366-2-ND; ComponentLink1Description: Datasheet; ComponentLink1URL: http://www.samsungsem.com/kr/support/product-search/mlcc/__icsFiles/afieldfile/2016/08/18/S_CL03C030CA3GNNC.pdf; ComponentLink2Description: Digi-Key Listing; ComponentLink2URL: https://www.digikey.com/product-detail/en/samsung-electro-mechanics-america-inc/CL03C030CA3GNNC/1276-1366-2-ND/3887024; Voltage: 25V; Price: 0.0039; Device Package: 0201 (0603 Metric)
footprint CAP 0201/0603
pins: 1, 2

## CL03C030CB3GNNC
designator C?, comment 3pF
CAP CER 3PF 50V NP0 0201; Part Number: CL03C030CB3GNNC; Manufacturer: Samsung Electro-Mechanics America, Inc.; TemperatureRange: -55C ~ 125C; TemperatureCoefficient: C0G, NP0; Tolerance: 0.25pF; Value: 3pF; PartId: 20770; Supplier 1: Digi-Key; Supplier Part Number 1: 1276-1367-2-ND; ComponentLink1Description: Datasheet; ComponentLink1URL: http://www.samsungsem.com/kr/support/product-search/mlcc/__icsFiles/afieldfile/2016/08/18/S_CL03C030CB3GNNC.pdf; ComponentLink2Description: Digi-Key Listing; ComponentLink2URL: https://www.digikey.com/product-detail/en/samsung-electro-mechanics-america-inc/CL03C030CB3GNNC/1276-1367-2-ND/3887025; Voltage: 50V; Price: 0.0046; Device Package: 0201 (0603 Metric)
footprint CAP 0201/0603
pins: 1, 2

## CL03C050BA3GNNC
designator C?, comment 5pF
CAP CER 5PF 25V NP0 0201; Part Number: CL03C050BA3GNNC; Manufacturer: Samsung Electro-Mechanics America, Inc.; TemperatureRange: -55C ~ 125C; TemperatureCoefficient: C0G, NP0; Tolerance: 0.1pF; Value: 5pF; PartId: 21033; Supplier 1: Digi-Key; Supplier Part Number 1: 1276-6560-2-ND; ComponentLink1Description: Datasheet; ComponentLink1URL: //media.digikey.com/pdf/Data%20Sheets/Samsung%20PDFs/CL_Series_MLCC_ds.pdf; ComponentLink2Description: Digi-Key Listing; ComponentLink2URL: https://www.digikey.com/product-detail/en/samsung-electro-mechanics-america-inc/CL03C050BA3GNNC/1276-6560-2-ND/5961044; Voltage: 25V; Price: 0.0033; Device Package: 0201 (0603 Metric)
footprint CAP 0201/0603
pins: 1, 2

## CL03C050CA3GNNC
designator C?, comment 5pF
CAP CER 5PF 25V NP0 0201; Part Number: CL03C050CA3GNNC; Manufacturer: Samsung Electro-Mechanics America, Inc.; TemperatureRange: -55C ~ 125C; TemperatureCoefficient: C0G, NP0; Tolerance: 0.25pF; Value: 5pF; PartId: 21059; Supplier 1: Digi-Key; Supplier Part Number 1: 1276-1368-2-ND; ComponentLink1Description: Datasheet; ComponentLink1URL: http://www.samsungsem.com/kr/support/product-search/mlcc/__icsFiles/afieldfile/2016/08/18/S_CL03C050CA3GNNC.pdf; ComponentLink2Description: Digi-Key Listing; ComponentLink2URL: https://www.digikey.com/product-detail/en/samsung-electro-mechanics-america-inc/CL03C050CA3GNNC/1276-1368-2-ND/3887026; Voltage: 25V; Price: 0.0039; Device Package: 0201 (0603 Metric)
footprint CAP 0201/0603
pins: 1, 2

## CL03C060BA3GNNC
designator C?, comment 6pF
CAP CER 6PF 25V NP0 0201; Part Number: CL03C060BA3GNNC; Manufacturer: Samsung Electro-Mechanics America, Inc.; TemperatureRange: -55C ~ 125C; TemperatureCoefficient: C0G, NP0; Tolerance: 0.1pF; Value: 6pF; PartId: 21085; Supplier 1: Digi-Key; Supplier Part Number 1: 1276-1369-2-ND; ComponentLink1Description: Datasheet; ComponentLink1URL: http://www.samsungsem.com/kr/support/product-search/mlcc/__icsFiles/afieldfile/2016/08/18/S_CL03C060BA3GNNC.pdf; ComponentLink2Description: Digi-Key Listing; ComponentLink2URL: https://www.digikey.com/product-detail/en/samsung-electro-mechanics-america-inc/CL03C060BA3GNNC/1276-1369-2-ND/3887027; Voltage: 25V; Price: 0.0063; Device Package: 0201 (0603 Metric)
footprint CAP 0201/0603
pins: 1, 2

## CL03C060CA3GNNC
designator C?, comment 6pF
CAP CER 6PF 25V NP0 0201; Part Number: CL03C060CA3GNNC; Manufacturer: Samsung Electro-Mechanics America, Inc.; TemperatureRange: -55C ~ 125C; TemperatureCoefficient: C0G, NP0; Tolerance: 0.25pF; Value: 6pF; PartId: 21037; Supplier 1: Digi-Key; Supplier Part Number 1: 1276-6710-2-ND; ComponentLink1Description: Datasheet; ComponentLink1URL: http://www.samsungsem.com/kr/support/product-search/mlcc/__icsFiles/afieldfile/2016/08/18/S_CL03C060CA3GNNC.pdf; ComponentLink2Description: Digi-Key Listing; ComponentLink2URL: https://www.digikey.com/product-detail/en/samsung-electro-mechanics-america-inc/CL03C060CA3GNNC/1276-6710-2-ND/5961194; Voltage: 25V; Price: 0.0086; Device Package: 0201 (0603 Metric)
footprint CAP 0201/0603
pins: 1, 2

## CL03C060DA3GNNC
designator C?, comment 6pF
CAP CER 6PF 25V NP0 0201; Part Number: CL03C060DA3GNNC; Manufacturer: Samsung Electro-Mechanics America, Inc.; TemperatureRange: -55C ~ 125C; TemperatureCoefficient: C0G, NP0; Tolerance: 0.5pF; Value: 6pF; PartId: 21043; Supplier 1: Digi-Key; Supplier Part Number 1: 1276-1370-2-ND; ComponentLink1Description: Datasheet; ComponentLink1URL: http://www.samsungsem.com/kr/support/product-search/mlcc/__icsFiles/afieldfile/2016/08/18/S_CL03C060DA3GNNC.pdf; ComponentLink2Description: Digi-Key Listing; ComponentLink2URL: https://www.digikey.com/product-detail/en/samsung-electro-mechanics-america-inc/CL03C060DA3GNNC/1276-1370-2-ND/3887028; Voltage: 25V; Price: 0.0042; Device Package: 0201 (0603 Metric)
footprint CAP 0201/0603
pins: 1, 2

## CL03C070BA3GNNC
designator C?, comment 7pF
CAP CER 7PF 25V NP0 0201; Part Number: CL03C070BA3GNNC; Manufacturer: Samsung Electro-Mechanics America, Inc.; TemperatureRange: -55C ~ 125C; TemperatureCoefficient: C0G, NP0; Tolerance: 0.1pF; Value: 7pF; PartId: 20987; Supplier 1: Digi-Key; Supplier Part Number 1: 1276-6707-2-ND; ComponentLink1Description: Datasheet; ComponentLink1URL: http://www.samsungsem.com/kr/support/product-search/mlcc/__icsFiles/afieldfile/2016/08/18/S_CL03C070BA3GNNC.pdf; ComponentLink2Description: Digi-Key Listing; ComponentLink2URL: https://www.digikey.com/product-detail/en/samsung-electro-mechanics-america-inc/CL03C070BA3GNNC/1276-6707-2-ND/5961191; Voltage: 25V; Price: 0.0033; Device Package: 0201 (0603 Metric)
footprint CAP 0201/0603
pins: 1, 2

## CL03C080DA3GNNC
designator C?, comment 8pF
CAP CER 8PF 25V C0G/NP0 0201; Part Number: CL03C080DA3GNNC; Manufacturer: Samsung Electro-Mechanics; TemperatureRange: -55C ~ 125C; TemperatureCoefficient: C0G, NP0; Tolerance: 0.5pF; Value: 8pF; PartId: 30159; Supplier 1: Digi-Key; Supplier Part Number 1: 1276-1371-2-ND; ComponentLink1Description: Datasheet; ComponentLink1URL: http://www.samsungsem.com/kr/support/product-search/mlcc/CL03C080DA3GNNC.jsp; ComponentLink2Description: Digi-Key Listing; ComponentLink2URL: https://www.digikey.com/product-detail/en/samsung-electro-mechanics/CL03C080DA3GNNC/1276-1371-2-ND/3887029; Voltage: 25V; Price: 0; Device Package: 0201 (0603 Metric)
footprint CAP 0201/0603
pins: 1, 2

## CL03C090CA3GNNC
designator C?, comment 9pF
CAP CER 9PF 25V C0G/NP0 0201; Part Number: CL03C090CA3GNNC; Manufacturer: Samsung Electro-Mechanics; TemperatureRange: -55C ~ 125C; TemperatureCoefficient: C0G, NP0; Tolerance: 0.25pF; Value: 9pF; PartId: 30135; Supplier 1: Digi-Key; Supplier Part Number 1: 1276-1372-2-ND; ComponentLink1Description: Datasheet; ComponentLink1URL: http://www.samsungsem.com/kr/support/product-search/mlcc/CL03C090CA3GNNC.jsp; ComponentLink2Description: Digi-Key Listing; ComponentLink2URL: https://www.digikey.com/product-detail/en/samsung-electro-mechanics/CL03C090CA3GNNC/1276-1372-2-ND/3887030; Voltage: 25V; Price: 0; Device Package: 0201 (0603 Metric)
footprint CAP 0201/0603
pins: 1, 2

## CL03C090DA3GNNC
designator C?, comment 9pF
CAP CER 9PF 25V NP0 0201; Part Number: CL03C090DA3GNNC; Manufacturer: Samsung Electro-Mechanics America, Inc.; TemperatureRange: -55C ~ 125C; TemperatureCoefficient: C0G, NP0; Tolerance: 0.5pF; Value: 9pF; PartId: 21062; Supplier 1: Digi-Key; Supplier Part Number 1: 1276-1373-2-ND; ComponentLink1Description: Datasheet; ComponentLink1URL: http://www.samsungsem.com/kr/support/product-search/mlcc/__icsFiles/afieldfile/2016/08/18/S_CL03C090DA3GNNC.pdf; ComponentLink2Description: Digi-Key Listing; ComponentLink2URL: https://www.digikey.com/product-detail/en/samsung-electro-mechanics-america-inc/CL03C090DA3GNNC/1276-1373-2-ND/3887031; Voltage: 25V; Price: 0.0042; Device Package: 0201 (0603 Metric)
footprint CAP 0201/0603
pins: 1, 2

## CL03C100DA3GNNC
designator C?, comment 10pF
CAP CER 10PF 25V NP0 0201; Part Number: CL03C100DA3GNNC; Manufacturer: Samsung Electro-Mechanics America, Inc.; TemperatureRange: -55C ~ 125C; TemperatureCoefficient: C0G, NP0; Tolerance: 0.5pF; Value: 10pF; PartId: 21074; Supplier 1: Digi-Key; Supplier Part Number 1: 1276-1383-2-ND; ComponentLink1Description: Datasheet; ComponentLink1URL: http://www.samsungsem.com/kr/front/downloadcms.do?path=/kr/support/product-search/mlcc/__icsFiles/afieldfile/2014/11/05&fileName=C_CL03C100DA3GNNC.pdf; ComponentLink2Description: Digi-Key Listing; ComponentLink2URL: https://www.digikey.com/product-detail/en/samsung-electro-mechanics-america-inc/CL03C100DA3GNNC/1276-1383-2-ND/3887041; Voltage: 25V; Price: 0.0039; Device Package: 0201 (0603 Metric)
footprint CAP 0201/0603
pins: 1, 2

## CL03C100JA3GNNC
designator C?, comment 10pF
CAP CER 10PF 25V NP0 0201; Part Number: CL03C100JA3GNNC; Manufacturer: Samsung Electro-Mechanics America, Inc.; TemperatureRange: -55C ~ 125C; TemperatureCoefficient: C0G, NP0; Tolerance: 5%; Value: 10pF; PartId: 20556; Supplier 1: Digi-Key; Supplier Part Number 1: 1276-1384-2-ND; ComponentLink1Description: Datasheet; ComponentLink1URL: http://www.samsungsem.com/kr/support/product-search/mlcc/__icsFiles/afieldfile/2016/08/18/S_CL03C100JA3GNNC.pdf; ComponentLink2Description: Digi-Key Listing; ComponentLink2URL: https://www.digikey.com/product-detail/en/samsung-electro-mechanics-america-inc/CL03C100JA3GNNC/1276-1384-2-ND/3887042; Voltage: 25V; Price: 0.0029; Device Package: 0201 (0603 Metric)
footprint CAP 0201/0603
pins: 1, 2

## CL03C101JB3NNNC
designator C?, comment 100pF
CAP CER 100PF 50V NP0 0201; Part Number: CL03C101JB3NNNC; Manufacturer: Samsung Electro-Mechanics America, Inc.; TemperatureRange: -55C ~ 125C; TemperatureCoefficient: C0G, NP0; Tolerance: 5%; Value: 100pF; PartId: 21092; Supplier 1: Digi-Key; Supplier Part Number 1: 1276-6758-2-ND; ComponentLink1Description: Datasheet; ComponentLink1URL: //media.digikey.com/pdf/Data%20Sheets/Samsung%20PDFs/CL_Series_MLCC_ds.pdf; ComponentLink2Description: Digi-Key Listing; ComponentLink2URL: https://www.digikey.com/product-detail/en/samsung-electro-mechanics-america-inc/CL03C101JB3NNNC/1276-6758-2-ND/5961242; Voltage: 50V; Price: 0.0149; Device Package: 0201 (0603 Metric)
footprint CAP 0201/0603
pins: 1, 2

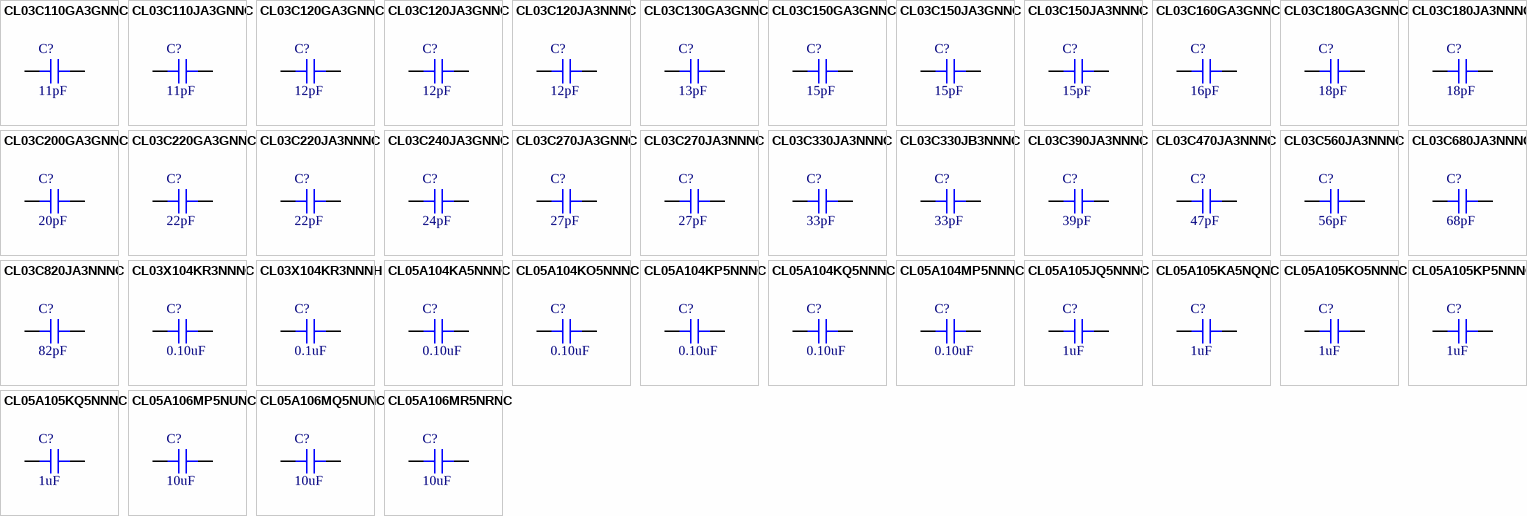
[diagram p3: symbols CL03C110GA3GNNC to CL05A106MR5NRNC]

## CL03C110GA3GNNC
designator C?, comment 11pF
CAP CER 11PF 25V NP0 0201; Part Number: CL03C110GA3GNNC; Manufacturer: Samsung Electro-Mechanics America, Inc.; TemperatureRange: -55C ~ 125C; TemperatureCoefficient: C0G, NP0; Tolerance: 2%; Value: 11pF; PartId: 21093; Supplier 1: Digi-Key; Supplier Part Number 1: 1276-6748-2-ND; ComponentLink1Description: Datasheet; ComponentLink1URL: http://www.samsungsem.com/kr/support/product-search/mlcc/__icsFiles/afieldfile/2016/08/18/S_CL03C110GA3GNNC.pdf; ComponentLink2Description: Digi-Key Listing; ComponentLink2URL: https://www.digikey.com/product-detail/en/samsung-electro-mechanics-america-inc/CL03C110GA3GNNC/1276-6748-2-ND/5961232; Voltage: 25V; Price: 0.0153; Device Package: 0201 (0603 Metric)
footprint CAP 0201/0603
pins: 1, 2

## CL03C110JA3GNNC
designator C?, comment 11pF
CAP CER 11PF 25V NP0 0201; Part Number: CL03C110JA3GNNC; Manufacturer: Samsung Electro-Mechanics America, Inc.; TemperatureRange: -55C ~ 125C; TemperatureCoefficient: C0G, NP0; Tolerance: 5%; Value: 11pF; PartId: 21087; Supplier 1: Digi-Key; Supplier Part Number 1: 1276-1386-2-ND; ComponentLink1Description: Datasheet; ComponentLink1URL: http://www.samsungsem.com/kr/front/downloadcms.do?path=/kr/support/product-search/mlcc/__icsFiles/afieldfile/2014/11/05&fileName=C_CL03C110JA3GNNC.pdf; ComponentLink2Description: Digi-Key Listing; ComponentLink2URL: https://www.digikey.com/product-detail/en/samsung-electro-mechanics-america-inc/CL03C110JA3GNNC/1276-1386-2-ND/3887044; Voltage: 25V; Price: 0.0029; Device Package: 0201 (0603 Metric)
footprint CAP 0201/0603
pins: 1, 2

## CL03C120GA3GNNC
designator C?, comment 12pF
CAP CER 12PF 25V C0G/NP0 0201; Part Number: CL03C120GA3GNNC; Manufacturer: Samsung Electro-Mechanics; TemperatureRange: -55C ~ 125C; TemperatureCoefficient: C0G, NP0; Tolerance: 2%; Value: 12pF; PartId: 30173; Supplier 1: Digi-Key; Supplier Part Number 1: 1276-6741-2-ND; ComponentLink1Description: Datasheet; ComponentLink1URL: http://www.samsungsem.com/kr/support/product-search/mlcc/CL03C120GA3GNNC.jsp; ComponentLink2Description: Digi-Key Listing; ComponentLink2URL: https://www.digikey.com/product-detail/en/samsung-electro-mechanics/CL03C120GA3GNNC/1276-6741-2-ND/5961225; Voltage: 25V; Price: 0; Device Package: 0201 (0603 Metric)
footprint CAP 0201/0603
pins: 1, 2

## CL03C120JA3GNNC
designator C?, comment 12pF
CAP CER 12PF 25V NP0 0201; Part Number: CL03C120JA3GNNC; Manufacturer: Samsung Electro-Mechanics America, Inc.; TemperatureRange: -55C ~ 125C; TemperatureCoefficient: C0G, NP0; Tolerance: 5%; Value: 12pF; PartId: 20568; Supplier 1: Digi-Key; Supplier Part Number 1: 1276-1388-2-ND; ComponentLink1Description: Datasheet; ComponentLink1URL: http://www.samsungsem.com/kr/front/downloadcms.do?path=/kr/support/product-search/mlcc/__icsFiles/afieldfile/2014/11/05&fileName=C_CL03C120JA3GNNC.pdf; ComponentLink2Description: Digi-Key Listing; ComponentLink2URL: https://www.digikey.com/product-detail/en/samsung-electro-mechanics-america-inc/CL03C120JA3GNNC/1276-1388-2-ND/3887046; Voltage: 25V; Price: 0.0033; Device Package: 0201 (0603 Metric)
footprint CAP 0201/0603
pins: 1, 2

## CL03C120JA3NNNC
designator C?, comment 12pF
CAP CER 12PF 25V NP0 0201; Part Number: CL03C120JA3NNNC; Manufacturer: Samsung Electro-Mechanics America, Inc.; TemperatureRange: -55C ~ 125C; TemperatureCoefficient: C0G, NP0; Tolerance: 5%; Value: 12pF; PartId: 21039; Supplier 1: Digi-Key; Supplier Part Number 1: 1276-6400-2-ND; ComponentLink1Description: Datasheet; ComponentLink1URL: http://www.samsungsem.com/kr/support/product-search/mlcc/__icsFiles/afieldfile/2016/08/18/S_CL03C120JA3NNNC.pdf; ComponentLink2Description: Digi-Key Listing; ComponentLink2URL: https://www.digikey.com/product-detail/en/samsung-electro-mechanics-america-inc/CL03C120JA3NNNC/1276-6400-2-ND/5180494; Voltage: 25V; Price: 0.0039; Device Package: 0201 (0603 Metric)
footprint CAP 0201/0603
pins: 1, 2

## CL03C130GA3GNNC
designator C?, comment 13pF
CAP CER 13PF 25V NP0 0201; Part Number: CL03C130GA3GNNC; Manufacturer: Samsung Electro-Mechanics America, Inc.; TemperatureRange: -55C ~ 125C; TemperatureCoefficient: C0G, NP0; Tolerance: 2%; Value: 13pF; PartId: 21088; Supplier 1: Digi-Key; Supplier Part Number 1: 1276-6742-2-ND; ComponentLink1Description: Datasheet; ComponentLink1URL: http://www.samsungsem.com/kr/support/product-search/mlcc/__icsFiles/afieldfile/2016/08/18/S_CL03C130GA3GNNC.pdf; ComponentLink2Description: Digi-Key Listing; ComponentLink2URL: https://www.digikey.com/product-detail/en/samsung-electro-mechanics-america-inc/CL03C130GA3GNNC/1276-6742-2-ND/5961226; Voltage: 25V; Price: 0.0153; Device Package: 0201 (0603 Metric)
footprint CAP 0201/0603
pins: 1, 2